# EAGLE library part 618015211721 (library Wurth-USB)
WR-DSUB 8.08mm Male Angled PCB Connector without Hex Screw 15 pins=>Code : Con_I-O_DSUB_PCB_Male_wo-screw_618015211721 <https://katalog.we-online.com/media/images/v2/o33075v209%20Family_WR-DSUB_6180xx211721.jpg> Details see: https://katalog.we-online.com/en/em/DSUB_MALE_ANGLED_PCB_CONNECTOR_W_O_HEX_SCREW_8_08MM_6180XX211721 Updated by Ella Wu 2019-03-15 2019 (C) Würth Elektronik
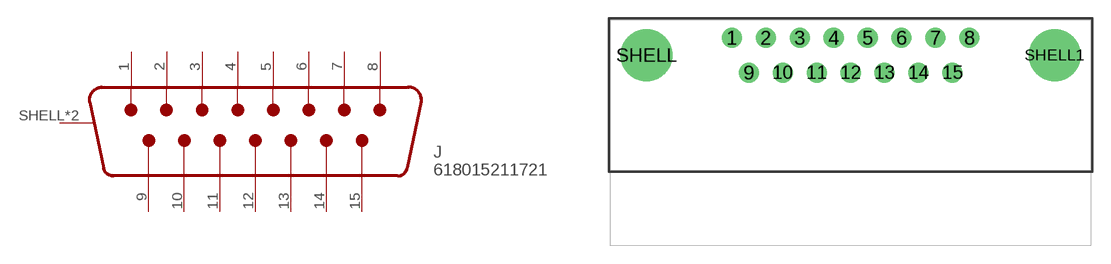
[diagram p25: symbol with the pads of 618015211721; footprint 618015211721]

Designator prefix J

## 618015211721 (WE-NUMBER: 618015211721)  [618015211721]
1  1
2  2
3  3
4  4
5  5
6  6
7  7
8  8
9  9
10  10
11  11
12  12
13  13
14  14
15  15
SHELL  SHIELD
SHELL1  SHIELD

## Footprint 618015211721 (pad centres in mm)
WR-DSUB 8.08mm Male Angled PCB Connector without Hex Screw, 15 pins
drill 1.09: 1 -9.695,1.42; 2 -6.925,1.42; 3 -4.155,1.42; 4 -1.385,1.42; 5 1.385,1.42; 6 4.155,1.42; 7 6.925,1.42; 8 9.695,1.42; 9 -8.31,-1.42; 10 -5.54,-1.42; 11 -2.77,-1.42; 12 0,-1.42; 13 2.77,-1.42; 14 5.54,-1.42; 15 8.31,-1.42
drill 3.2: SHELL -16.65,0; SHELL1 16.65,0